# EAGLE library part TPA3118D2 (library NASA_LIB)
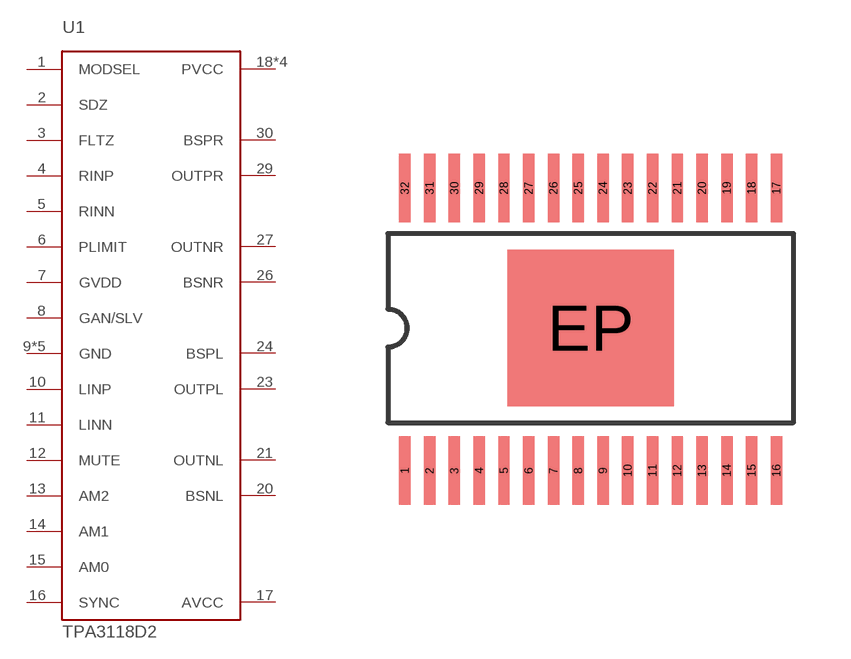
[diagram p46: symbol with the pads of HTSSOP-32; footprint HTSSOP-32]

Designator prefix U1

## TPA3118D2  [HTSSOP-32]
1  MODSEL
2  SDZ
3  FLTZ
4  RINP
5  RINN
6  PLIMIT
7  GVDD
8  GAN/SLV
9  GND
10  LINP
11  LINN
12  MUTE
13  AM2
14  AM1
15  AM0
16  SYNC
17  AVCC
18  PVCC
19  PVCC
20  BSNL
21  OUTNL
22  GND
23  OUTPL
24  BSPL
25  GND
26  BSNR
27  OUTNR
28  GND
29  OUTPR
30  BSPR
31  PVCC
32  PVCC
EP  GND

## Footprint HTSSOP-32 (pad centres in mm)
smd 0.3 x 1.8: 1 -4.875,-3.737; 2 -4.225,-3.737; 3 -3.575,-3.737; 4 -2.925,-3.737; 5 -2.275,-3.737; 6 -1.625,-3.737; 7 -0.975,-3.737; 8 -0.325,-3.737; 9 0.325,-3.737; 10 0.975,-3.737; 11 1.625,-3.737; 12 2.275,-3.737; 13 2.925,-3.737; 14 3.575,-3.737; 15 4.225,-3.737; 16 4.875,-3.737; 17 4.875,3.675; 18 4.225,3.675; 19 3.575,3.675; 20 2.925,3.675; 21 2.275,3.675; 22 1.625,3.675; 23 0.975,3.675; 24 0.325,3.675; 25 -0.325,3.675; 26 -0.975,3.675; 27 -1.625,3.675; 28 -2.275,3.675; 29 -2.925,3.675; 30 -3.575,3.675; 31 -4.225,3.675; 32 -4.875,3.675
smd 4.36 x 4.11: EP 0,0